# EAGLE library part B5-P5S-0D-Z (library CEDTv40 (1))
Zippy B5 Series B5-P5S-0D-Z SMD Scroll Switch Anurag
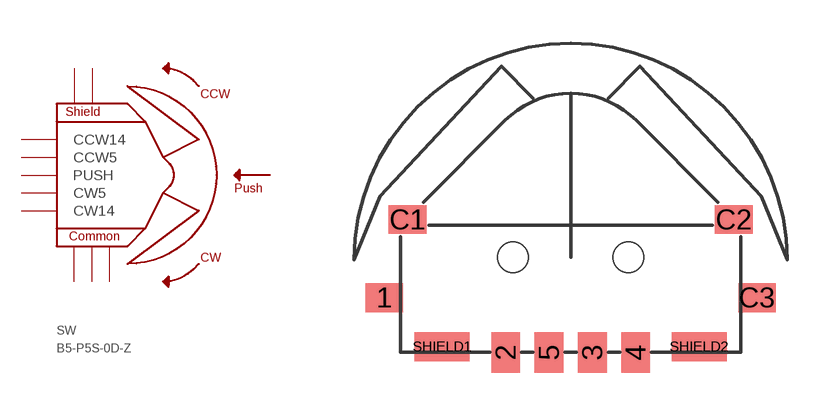
[diagram p24: symbol with the pads of B5-P5S-0D-Z; footprint B5-P5S-0D-Z]

Designator prefix SW

## B5-P5S-0D-Z  [B5-P5S-0D-Z]
1  CCW5
2  CCW14
3  CW14
4  CW5
5  PUSH
C1  C1
C2  C2
C3  C3
SHIELD1  SHIELD1
SHIELD2  SHIELD2

## Footprint B5-P5S-0D-Z (pad centres in mm)
smd 1.3 x 1: 1 -6.45,-1.4; C1 -5.65,1.3; C2 5.65,1.3; C3 6.45,-1.4
smd 1 x 1.4: 2 -2.25,-3.3; 3 0.75,-3.3; 4 2.25,-3.3; 5 -0.75,-3.3
smd 1.9 x 1: SHIELD1 -4.45,-3.1; SHIELD2 4.45,-3.1
hole 1.05 at 2,0
hole 1.05 at -2,0